# Altium footprint library Flow_Pump.PcbLib: 78 footprints (part 3 of 5)
Each footprint in its own frame and in the unit in brackets; x right, y up, seen from the top. Pads: shape width x height; smd on the part's side, far side on the other; paste and mask are expansions set on the pad; w line width, h text height; cw(c..) or ccw(c..) is an arc to the next point about the centre after c.
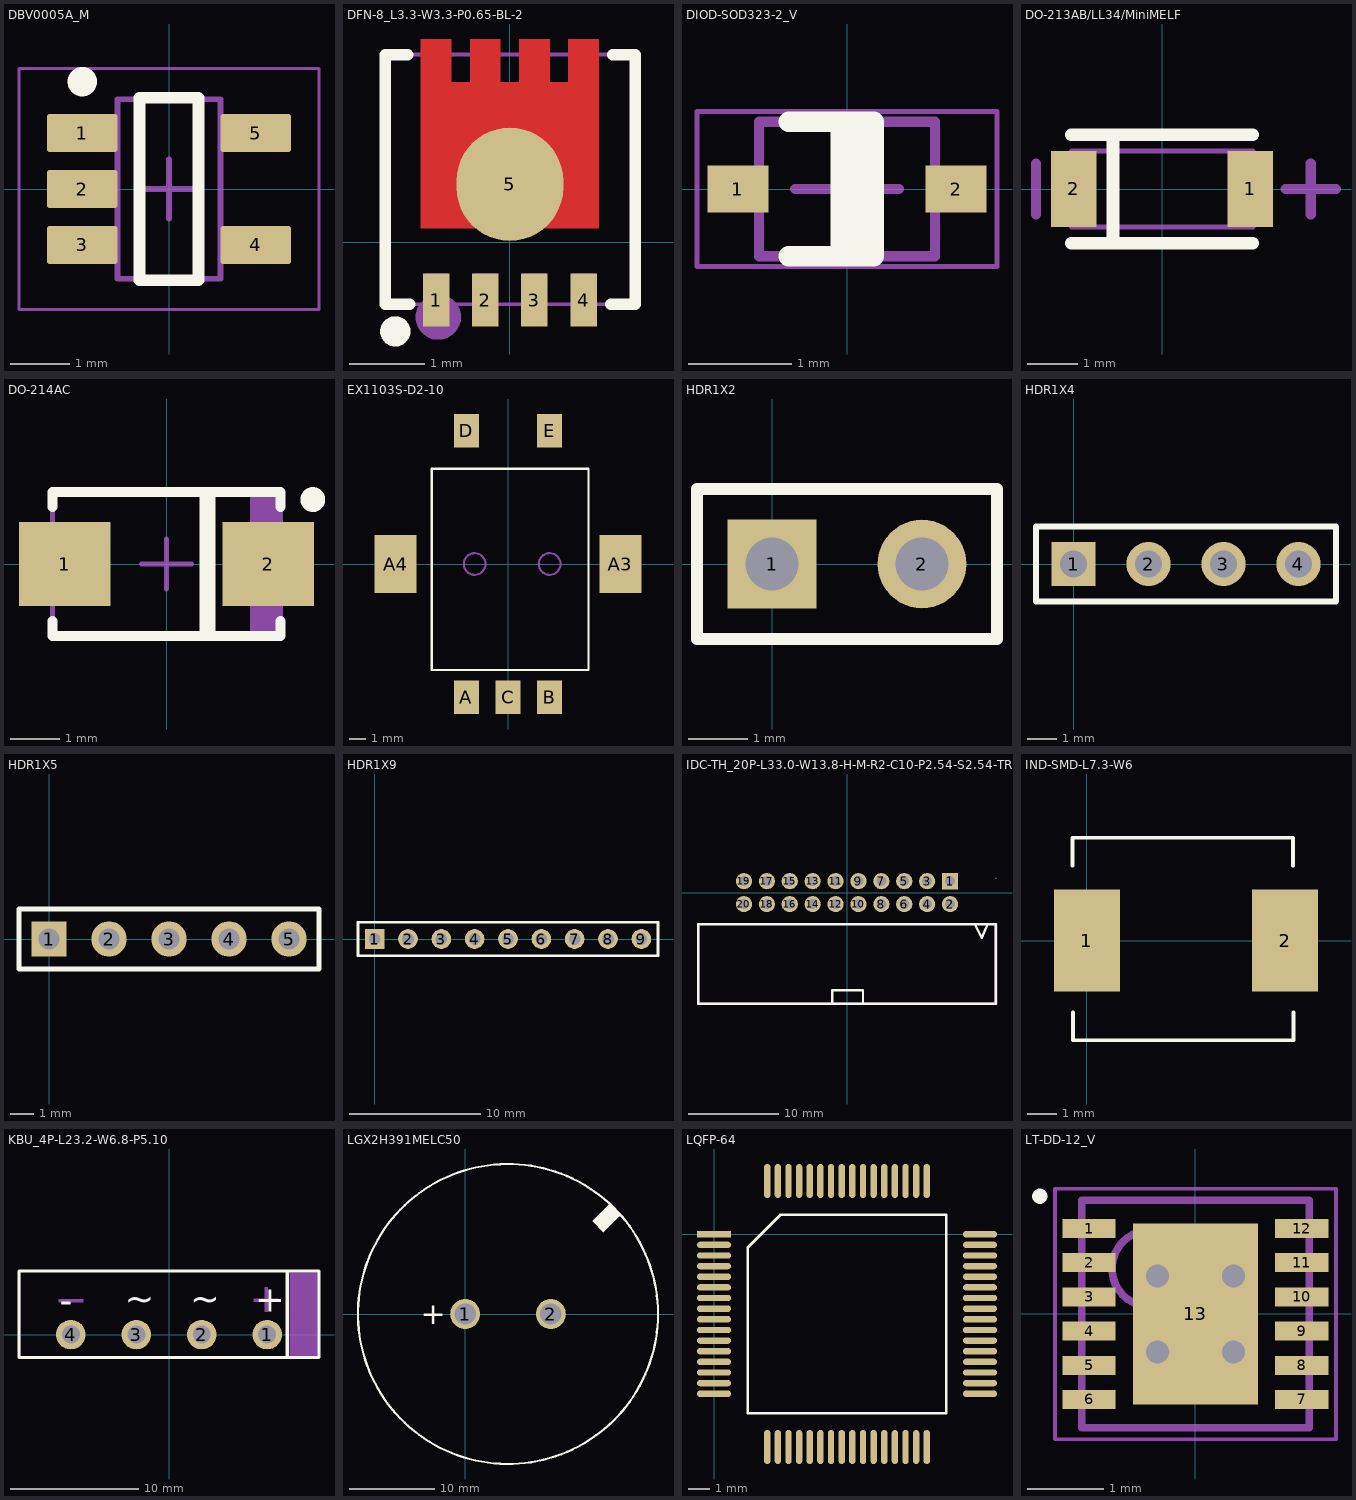
[diagram p2: the footprints below, top view; thin cyan lines are the x and y axes]

## DBV0005A_M [mm] "SOT23, 5-Leads, Body 3.05x1.75mm, Pitch 0.95mm, IPC Low Density"
height 1.45
pads (5):
  rrect15% 1.2x0.65 smd: 1(-1.475,0.95) 2(-1.475,0) 3(-1.475,-0.95) 4(1.475,-0.95) 5(1.475,0.95)
Top Overlay:
  circle w0.25: c-1.475,1.825 r0.125
  lines w0.2: -0.5,-1.55 0.5,-1.55 0.5,1.55 -0.5,1.55 -0.5,-1.55
Mechanical 13:
  lines w0.1: -0.875,-1.525 -0.875,1.525 0.875,1.525 0.875,-1.525 -0.875,-1.525
Mechanical 15:
  lines w0.05: -2.55,-2.05 -2.55,2.05 2.55,2.05 2.55,-2.05 -2.55,-2.05
  lines w0.1: -0.5,0 0.5,0 ; 0,-0.5 0,0.5
3D body "DBV0005AaksMF05A.stp": height 1.08, standoff -0.01, extent -1.422,-1.461 1.422,1.46

## DFN-8_L3.3-W3.3-P0.65-BL-2 [mm]
height 0.75
pads (5):
  rect 0.35x0.7 smd paste-100 mask+0.051: 1(-0.975,-0.765) 2(-0.325,-0.765) 3(0.325,-0.765) 4(0.975,-0.765)
  oval 1.411x1.499 smd: 5(0,0.765)
Top Layer:
  region: -1.176,0.187 -1.176,2.115 -1.176,2.685 -0.775,2.685 -0.775,2.115 -0.526,2.115 -0.526,2.685 -0.125,2.685 -0.125,2.115 0.125,2.115 0.125,2.685 0.525,2.685 0.525,2.115 0.774,2.115 0.774,2.685 0.774,2.115 0.774,2.685 1.176,2.685 1.176,2.115 1.176,0.187
Top Overlay:
  circle w0.2: c-1.515,-1.18 r0.1
  lines w0.152: -1.351,2.48 -1.645,2.48 -1.645,-0.82 -1.325,-0.82 ; 1.335,-0.82 1.655,-0.82 1.655,2.48 1.361,2.48
Top Paste:
  region: -1.176,2.115 -1.176,2.685 -0.775,2.685 -0.775,2.115
  region: -1.176,2.115 -0.526,2.115 -0.526,2.685 -0.125,2.685 -0.125,2.115
  region: -1.176,2.115 0.125,2.115 0.125,2.685 0.525,2.685 0.525,2.115
  region: 1.176,2.115 0.774,2.115 0.774,2.685 1.176,2.685
  region: -1.176,0.187 -1.176,2.115 1.176,2.115 1.176,0.187
  region: -1.15,-0.415 -0.8,-0.415 -0.8,-1.115 -1.15,-1.115
  region: -0.5,-0.415 -0.15,-0.415 -0.15,-1.115 -0.5,-1.115
  region: 0.15,-0.415 0.5,-0.415 0.5,-1.115 0.15,-1.115
  region: 0.8,-0.415 1.15,-0.415 1.15,-1.115 0.8,-1.115
Mechanical 6:
  circle w0.3: c-0.945,-0.99 r0.15
Mechanical 15:
  region: -1.12,-0.42 -0.82,-0.42 -0.82,-0.82 -1.12,-0.82
  region: -0.47,-0.42 -0.17,-0.42 -0.17,-0.82 -0.47,-0.82
  region: 0.18,-0.42 0.48,-0.42 0.48,-0.82 0.18,-0.82
  region: 0.83,-0.42 1.13,-0.42 1.13,-0.82 0.83,-0.82
  region: -1.12,0.23 -1.12,2.08 -1.12,2.48 -0.82,2.48 -0.82,2.08 -0.47,2.08 -0.47,2.48 -0.17,2.48 -0.17,2.08 0.18,2.08 0.18,2.48 0.48,2.48 0.48,2.08 0.83,2.08 0.83,2.48 1.13,2.48 1.13,2.08 1.13,0.23
  region: -1.585,-0.82 -1.585,-0.795 -1.62,-0.76 -1.67,-0.76 -1.705,-0.795 -1.705,-0.82 -1.705,-0.845 -1.67,-0.88 -1.62,-0.88 -1.585,-0.845 -1.585,-0.82
  lines w0.051: -1.645,-0.82 1.655,-0.82 1.655,2.48 -1.645,2.48 -1.645,-0.82

## DIOD-SOD323-2_V [mm] "SOD-323, 2-Leads, Body 1.7x1.3mm, Lead Span 2.5mm"
height 1.2
pads (2):
  rect 0.59x0.45 smd: 1(-1.055,0) 2(1.055,0)
Top Overlay:
  rectangle: -0.16,-0.65 0.26,0.65
  lines w0.2: -0.56,-0.65 0.26,-0.65 0.26,0.65 -0.56,0.65
Mechanical 13:
  lines w0.1: -0.85,-0.65 0.85,-0.65 0.85,0.65 -0.85,0.65 -0.85,-0.65
Mechanical 15:
  lines w0.05: -1.45,-0.75 1.45,-0.75 1.45,0.75 -1.45,0.75 -1.45,-0.75
  lines w0.1: -0.5,0 0.5,0 ; 0,-0.5 0,0.5
3D body "SOD323.stp": height 1.13, standoff 0.02, extent -1.212,-0.65 1.306,0.65

## DO-213AB/LL34/MiniMELF [mm]
height 0.75
pads (2):
  rect 0.9x1.5 smd: 1(1.75,0) 2(-1.75,0)
Top Overlay:
  lines w0.254: -1.8,-1.075 1.8,-1.075 ; -1.8,1.075 1.8,1.075 ; -0.975,-1.075 -0.975,1.075
Mechanical 13:
  lines w0.1: -1.8,-0.75 1.8,-0.75 1.8,0.75 -1.8,0.75 -1.8,-0.75
Mechanical 15:
  lines w0.203: -2.5,-0.5 -2.5,0.5 ; 2.45,0 3.45,0 ; 2.95,-0.5 2.95,0.5

## DO-214AC [mm] "Molded Diode, 2-Leads, Body 4.3x2.7mm, IPC Medium Density"
height 2.438
pads (2):
  rect 1.85x1.7 smd: 1(-2.05,0) 2(2.05,0)
Top Overlay:
  circle w0.25: c2.95,1.3 r0.125
  lines w0.2: -2.3,-1.15 -2.3,-1.45 2.3,-1.45 2.3,-1.15 ; -2.3,1.15 -2.3,1.45 2.3,1.45 2.3,1.15 ; 0.762,-1.397 0.762,1.397 ; 0.889,-1.397 0.889,1.397
Mechanical 13:
  rectangle: 1.681,-1.45 2.3,1.45
  lines w0.1: -2.3,-1.45 -2.3,1.45 2.3,1.45 2.3,-1.45 -2.3,-1.45
Mechanical 15:
  lines w0.1: -0.5,0 0.5,0 ; 0,-0.5 0,0.5
3D body: height 2.44, standoff 0, extent -2.3,-1.45 2.3,1.45

## EX1103S-D2-10 [mm]
height 0.75
pads (7):
  rect 1.5x2 smd: A(-2.5,-8) B(2.5,-8) C(0,-8) D(-2.5,8) E(2.5,8)
  rect 2.5x3.5 smd: A3(6.75,0) A4(-6.75,0)
Top Overlay:
  lines w0.127: -4.572,-6.35 -4.572,5.715 4.826,5.715 4.826,-6.35 -4.572,-6.35
Mechanical 1:
  circle w0.127: c-2,0 r0.65
  circle w0.127: c2.5,0 r0.65

## HDR1X2 [mm] "Connector; Header; 2 Position"
height 0.75
pads (2):
  rect 1.5x1.5 hole 0.9: 1(0,0)
  round 1.5 hole 0.9: 2(2.54,0)
Top Overlay:
  lines w0.2: -1.27,-1.27 3.81,-1.27 3.81,1.27 -1.27,1.27 -1.27,-1.27

## HDR1X4 [mm] "Connector; Header; 4 Position"
height 0.75
pads (4):
  rect 1.5x1.5 hole 0.9: 1(0,0)
  round 1.5 hole 0.9: 2(2.54,0) 3(5.08,0) 4(7.62,0)
Top Overlay:
  lines w0.2: -1.27,-1.27 -1.27,1.27 8.89,1.27 8.89,-1.27 -1.27,-1.27

## HDR1X5 [mm] "Connector; Header; 5 Position"
height 0.75
pads (5):
  rect 1.5x1.5 hole 0.9: 1(0,0)
  round 1.5 hole 0.9: 2(2.54,0) 3(5.08,0) 4(7.62,0) 5(10.16,0)
Top Overlay:
  lines w0.2: -1.27,-1.27 11.43,-1.27 11.43,1.27 -1.27,1.27 -1.27,-1.27

## HDR1X9 [mm] "Connector; Header; 9 Position"
height 0.75
pads (9):
  rect 1.5x1.5 hole 0.9: 1(0,0)
  round 1.5 hole 0.9: 2(2.54,0) 3(5.08,0) 4(7.62,0) 5(10.16,0) 6(12.7,0) 7(15.24,0) 8(17.78,0) 9(20.32,0)
Top Overlay:
  lines w0.2: -1.27,-1.27 21.59,-1.27 21.59,1.27 -1.27,1.27 -1.27,-1.27

## IDC-TH_20P-L33.0-W13.8-H-M-R2-C10-P2.54-S2.54-TR [mm]
pads (20):
  rect 1.8x1.8 hole 1.1: 1(11.43,1.27)
  round 1.8 hole 1.1: 2(11.43,-1.27) 3(8.89,1.27) 4(8.89,-1.27) 5(6.35,1.27) 6(6.35,-1.27) 7(3.81,1.27) 8(3.81,-1.27) 9(1.27,1.27) 10(1.27,-1.27) 11(-1.27,1.27) 12(-1.27,-1.27) 13(-3.81,1.27) 14(-3.81,-1.27) 15(-6.35,1.27) 16(-6.35,-1.27) 17(-8.89,1.27) 18(-8.89,-1.27) 19(-11.43,1.27) 20(-11.43,-1.27)
Top Overlay:
  lines w0.254: -16.51,-3.525 -16.51,-12.325 16.51,-12.325 16.51,-3.52 -16.51,-3.52 ; -1.639,-12.325 -1.639,-10.84 1.78,-10.84 1.78,-12.325 ; 14.178,-3.52 14.94,-5.01 15.6,-3.52
Mechanical 6:
  region: -16.383,-3.525 -16.383,-12.325 -16.383,-12.378 -16.457,-12.452 -16.563,-12.452 -16.637,-12.378 -16.637,-12.325 -16.637,-3.525 -16.637,-3.472 -16.563,-3.398 -16.457,-3.398 -16.383,-3.472
  region: -16.51,-12.198 16.51,-12.198 16.563,-12.198 16.637,-12.272 16.637,-12.378 16.563,-12.452 16.51,-12.452 -16.51,-12.452 -16.563,-12.452 -16.637,-12.378 -16.637,-12.272 -16.563,-12.198
  region: 16.383,-12.325 16.383,-3.52 16.383,-3.467 16.457,-3.393 16.563,-3.393 16.637,-3.467 16.637,-3.52 16.637,-12.325 16.637,-12.378 16.563,-12.452 16.457,-12.452 16.383,-12.378
Mechanical 15:
  region: 11.11,1.59 11.75,1.59 11.75,0.95 11.11,0.95
  region: -11.75,-0.95 -11.11,-0.95 -11.11,-1.59 -11.75,-1.59
  region: -11.75,1.59 -11.11,1.59 -11.11,0.95 -11.75,0.95
  region: -9.21,-0.95 -8.57,-0.95 -8.57,-1.59 -9.21,-1.59
  region: -9.21,1.59 -8.57,1.59 -8.57,0.95 -9.21,0.95
  region: -6.67,-0.95 -6.03,-0.95 -6.03,-1.59 -6.67,-1.59
  region: -6.67,1.59 -6.03,1.59 -6.03,0.95 -6.67,0.95
  region: -4.13,-0.95 -3.49,-0.95 -3.49,-1.59 -4.13,-1.59
  region: -4.13,1.59 -3.49,1.59 -3.49,0.95 -4.13,0.95
  region: -1.59,-0.95 -0.95,-0.95 -0.95,-1.59 -1.59,-1.59
  region: -1.59,1.59 -0.95,1.59 -0.95,0.95 -1.59,0.95
  region: 0.95,-0.95 1.59,-0.95 1.59,-1.59 0.95,-1.59
  region: 0.95,1.59 1.59,1.59 1.59,0.95 0.95,0.95
  region: 3.49,-0.95 4.13,-0.95 4.13,-1.59 3.49,-1.59
  region: 3.49,1.59 4.13,1.59 4.13,0.95 3.49,0.95
  region: 6.03,-0.95 6.67,-0.95 6.67,-1.59 6.03,-1.59
  region: 6.03,1.59 6.67,1.59 6.67,0.95 6.03,0.95
  region: 8.57,-0.95 9.21,-0.95 9.21,-1.59 8.57,-1.59
  region: 8.57,1.59 9.21,1.59 9.21,0.95 8.57,0.95
  region: 11.11,-0.95 11.75,-0.95 11.75,-1.59 11.11,-1.59
  region: 16.57,1.59 16.569,1.614 16.534,1.648 16.486,1.648 16.451,1.614 16.45,1.59 16.451,1.566 16.486,1.532 16.534,1.532 16.569,1.566
  lines w0.051: -16.51,-12.323 -16.51,-3.523 16.51,-3.523 16.51,-12.323 -16.51,-12.323

## IND-SMD-L7.3-W6 [mm]
height 0.75
pads (2):
  rect 2.224x3.42 smd: 1(0,0) 2(6.656,0)
Top Overlay:
  lines w0.127: -0.483,2.515 -0.483,3.454 6.917,3.454 6.917,2.515 ; -0.466,-2.413 -0.466,-3.353 6.934,-3.353 6.934,-2.413

## KBU_4P-L23.2-W6.8-P5.10 [mm]
height 0.75
pads (4):
  round 2.3 hole 1.4: 1(7.65,0) 2(2.55,0) 3(-2.55,0) 4(-7.65,0)
Top Overlay:
  lines w0.254: 9.206,-1.778 9.206,4.953 ; -11.684,-1.778 -11.684,4.953 11.684,4.953 11.684,-1.778 -11.684,-1.778
  text "-" at -8.509,1.651 h2.03
  text "~" at -3.43,1.831 h2.03
  text "~" at 1.65,1.831 h2.03
  text "+" at 6.73,1.786 h2.03
Mechanical 6:
  region: 9.398,4.826 11.557,4.826 11.557,-1.651 9.398,-1.651
  region: -8.597,2.758 -6.692,2.758 -6.692,2.504 -8.597,2.504
  region: 7.452,1.764 7.452,3.669 7.706,3.669 7.706,1.764
  region: 6.604,2.794 8.509,2.794 8.509,2.54 6.604,2.54
Mechanical 15:
  region: -7.025,0 -7.025,0.124 -7.12,0.354 -7.296,0.53 -7.526,0.625 -7.774,0.625 -8.004,0.53 -8.18,0.354 -8.275,0.124 -8.275,0 -8.275,-0.124 -8.18,-0.354 -8.004,-0.53 -7.774,-0.625 -7.526,-0.625 -7.296,-0.53 -7.12,-0.354 -7.025,-0.124 -7.025,0
  region: -1.925,0 -1.925,0.124 -2.02,0.354 -2.196,0.53 -2.426,0.625 -2.674,0.625 -2.904,0.53 -3.08,0.354 -3.175,0.124 -3.175,0 -3.175,-0.124 -3.08,-0.354 -2.904,-0.53 -2.674,-0.625 -2.426,-0.625 -2.196,-0.53 -2.02,-0.354 -1.925,-0.124 -1.925,0
  region: 3.175,0 3.175,0.124 3.08,0.354 2.904,0.53 2.674,0.625 2.426,0.625 2.196,0.53 2.02,0.354 1.925,0.124 1.925,0 1.925,-0.124 2.02,-0.354 2.196,-0.53 2.426,-0.625 2.674,-0.625 2.904,-0.53 3.08,-0.354 3.175,-0.124 3.175,0
  region: 8.275,0 8.275,0.124 8.18,0.354 8.004,0.53 7.774,0.625 7.526,0.625 7.296,0.53 7.12,0.354 7.025,0.124 7.025,0 7.025,-0.124 7.12,-0.354 7.296,-0.53 7.526,-0.625 7.774,-0.625 8.004,-0.53 8.18,-0.354 8.275,-0.124 8.275,0
  region: 11.66,4.95 11.66,4.975 11.625,5.01 11.575,5.01 11.54,4.975 11.54,4.95 11.54,4.925 11.575,4.89 11.625,4.89 11.66,4.925 11.66,4.95
  lines w0.051: -11.6,-1.8 -11.6,4.95 11.6,4.95 11.6,-1.8 -11.6,-1.8

## LGX2H391MELC50 [mm]
height 0.75
pads (2):
  round 3.5 hole 2.5: 1(0,0) 2(10,0)
Top Overlay:
  circle w0.254: c5,0 r17.5
  region: 16.861,12.867 14.859,10.865 14.859,10.795 16.129,9.525 17.981,11.377 18.297,11.377
  text "+" at -5.207,-1.185 h2.54

## LQFP-64 [mm]
height 0.75
pads (64):
  rect 1.6x0.3 smd: 1(0,0)
  oval 1.6x0.3 smd: 2(0,-0.5) 3(0,-1) 4(0,-1.5) 5(0,-2) 6(0,-2.5) 7(0,-3) 8(0,-3.5) 9(0,-4) 10(0,-4.5) 11(0,-5) 12(0,-5.5) 13(0,-6) 14(0,-6.5) 15(0,-7) 16(0,-7.5) 33(12.5,-7.5) 34(12.5,-7) 35(12.5,-6.5) 36(12.5,-6) 37(12.5,-5.5) 38(12.5,-5) 39(12.5,-4.5) 40(12.5,-4) 41(12.5,-3.5) 42(12.5,-3) 43(12.5,-2.5) 44(12.5,-2) 45(12.5,-1.5) 46(12.5,-1) 47(12.5,-0.5) 48(12.5,0)
  oval 0.3x1.6 smd: 17(2.5,-10) 18(3,-10) 19(3.5,-10) 20(4,-10) 21(4.5,-10) 22(5,-10) 23(5.5,-10) 24(6,-10) 25(6.5,-10) 26(7,-10) 27(7.5,-10) 28(8,-10) 29(8.5,-10) 30(9,-10) 31(9.5,-10) 32(10,-10) 49(10,2.5) 50(9.5,2.5) 51(9,2.5) 52(8.5,2.5) 53(8,2.5) 54(7.5,2.5) 55(7,2.5) 56(6.5,2.5) 57(6,2.5) 58(5.5,2.5) 59(5,2.5) 60(4.5,2.5) 61(4,2.5) 62(3.5,2.5) 63(3,2.5) 64(2.5,2.5)
Top Overlay:
  lines w0.127: 1.585,-8.415 10.915,-8.415 10.915,0.915 3.12,0.915 1.585,-0.62 1.585,-8.415

## LT-DD-12_V [mm] "SON, 12-Leads, Body 3x3mm, Pitch 0.45mm, Thermal Pad 2.38x1.65mm"
height 0.8
pads (13):
  rect 0.7x0.25 smd: 1(-1.4,1.125) 2(-1.4,0.675) 3(-1.4,0.225) 4(-1.4,-0.225) 5(-1.4,-0.675) 6(-1.4,-1.125) 7(1.4,-1.125) 8(1.4,-0.675) 9(1.4,-0.225) 10(1.4,0.225) 11(1.4,0.675) 12(1.4,1.125)
  rect 1.65x2.38 smd: 13(0,0)
via -0.5,0.5 diameter 0.61 hole 0.305
via 0.5,0.5 diameter 0.61 hole 0.305
via -0.5,-0.5 diameter 0.61 hole 0.305
via 0.5,-0.5 diameter 0.61 hole 0.305
Top Overlay:
  circle w0.1: c-2.05,1.55 r0.05
Mechanical 13:
  circle w0.1: c-0.6,0.6 r0.5
  lines w0.1: -1.5,-1.5 -1.5,1.5 1.5,1.5 1.5,-1.5 -1.5,-1.5
Mechanical 15:
  lines w0.05: -1.85,-1.65 -1.85,1.65 1.85,1.65 1.85,-1.65 -1.85,-1.65
  lines w0.1: -0.5,0 0.5,0 ; 0,-0.5 0,0.5
3D body: height 0.8, standoff 0, extent -1.5,-1.5 1.5,1.5